# Altium footprint library miniGateway.PcbLib: 12 footprints
Each footprint in its own frame and in the unit in brackets; x right, y up, seen from the top. Pads: shape width x height; smd on the part's side, far side on the other; paste and mask are expansions set on the pad; w line width, h text height; cw(c..) or ccw(c..) is an arc to the next point about the centre after c.
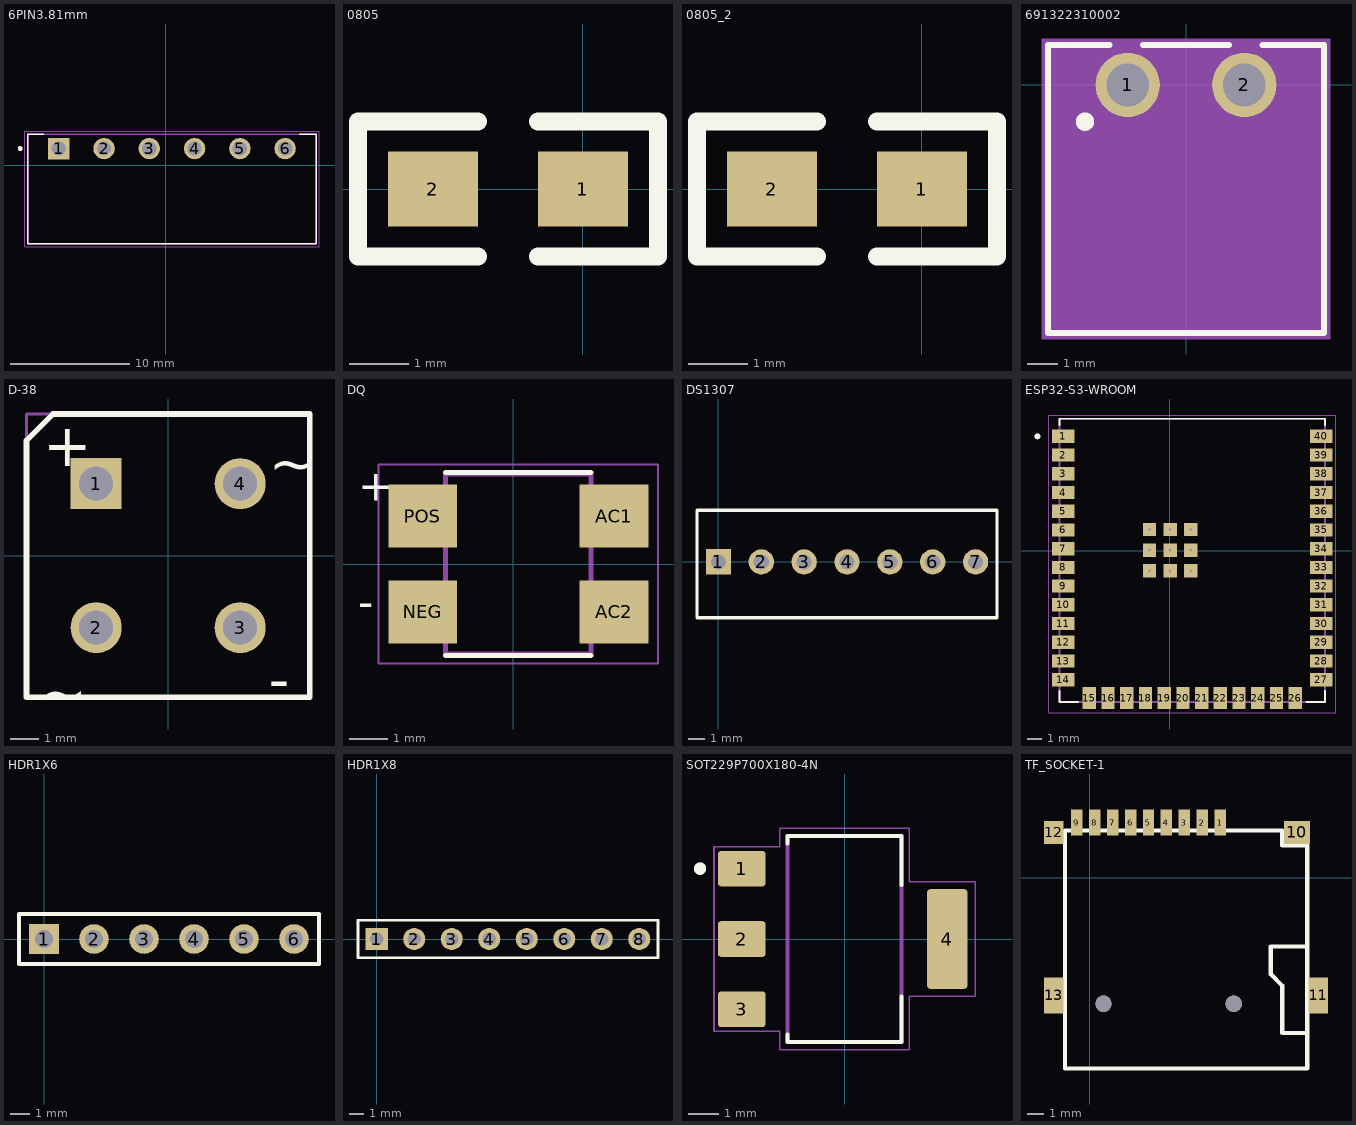
[diagram p0: the footprints below, top view; thin cyan lines are the x and y axes]

## 6PIN3.81mm [mm]
pads (6):
  rect 1.8x1.8 hole 1.2: 1(-9.017,1.397)
  round 1.8 hole 1.2: 2(-5.207,1.397) 3(-1.397,1.397) 4(2.413,1.397) 5(6.223,1.397) 6(10.033,1.397)
Top Overlay:
  circle w0.2: c-12.267,1.397 r0.1
  lines w0.127: -10.267,2.597 -11.617,2.597 -11.617,-6.603 12.633,-6.603 12.633,2.597 11.283,2.597
Mechanical 13:
  circle w0.2: c-12.267,1.397 r0.1
  lines w0.127: -11.617,-6.603 -11.617,2.597 12.633,2.597 12.633,-6.603 -11.617,-6.603
Mechanical 15:
  lines w0.05: -11.867,-6.853 12.883,-6.853 12.883,2.847 -11.867,2.847 -11.867,-6.853

## 0805 [mil]
pads (2):
  rect 60x50 smd: 1(0,0) 2(-100,0)
Top Overlay:
  lines w12: -70,-45 -150,-45 -150,45 -70,45 ; -30,-45 50,-45 50,45 -30,45

## 0805_2 [mil]
pads (2):
  rect 60x50 smd: 1(0,0) 2(-100,0)
Top Overlay:
  lines w12: -70,-45 -150,-45 -150,45 -70,45 ; -30,-45 50,-45 50,45 -30,45

## 691322310002 [mm]
pads (2):
  round 2.1 hole 1.4: 1(-1.905,0) 2(1.905,0)
Top Overlay:
  circle w0.4: c-3.3,-1.2 r0.1
  lines w0.2: -2.5,1.3 -4.505,1.3 -4.505,-8.1 4.505,-8.1 4.505,1.3 2.5,1.3 ; -1.4,1.3 1.4,1.3
Mechanical 13:
  lines w0.1: -4.405,-8 -4.405,1.2 4.405,1.2 4.405,-8 -4.405,-8
Mechanical 15:
  region: 4.705,-8.3 -4.705,-8.3 -4.705,1.5 4.705,1.5

## D-38 [mm] "Bridge Rectifier; 4 Terminals; Body 9.4 x 9.4 mm (typ); Pitch 5.08 mm"
height 9.91
pads (4):
  rect 1.8x1.8 hole 1.2: 1(-2.54,2.54)
  round 1.8 hole 1.2: 2(-2.54,-2.54) 3(2.54,-2.54) 4(2.54,2.54)
Top Overlay:
  lines w0.2: -5,-5 5,-5 5,5 -4.064,5 -5,4.064 -5,-5
  text "~" at 3.556,2.54 h1.5
  text "~" at -4.572,-5.588 h1.5
  text "-" at 3.556,-5.08 h1.5
  text "+" at -4.41,3.164 h1.5
Mechanical 13:
  lines w0.1: -5,-5 5,-5 5,5 -5,5 -5,-5
3D body: height 9.91, standoff 0, extent -5,-5 5,5

## DQ [mm]
pads (4):
  rect 1.8x1.65 smd: AC1(2.627,1.25) AC2(2.627,-1.25) NEG(-2.373,-1.25) POS(-2.373,1.25)
Top Overlay:
  lines w0.127: -1.773,-2.395 2.027,-2.395 ; -1.773,2.395 2.027,2.395
  text "+" at -4.064,1.651 h0.81
  text "-" at -4.064,-1.397 h0.81
Mechanical 13:
  lines w0.127: -1.773,-2.35 2.027,-2.35 2.027,2.35 -1.773,2.35 -1.773,-2.35
  text "+" at -4.064,1.651 h0.81
  text "-" at -4.064,-1.397 h0.81
Mechanical 15:
  lines w0.05: -3.523,-2.6 3.777,-2.6 3.777,2.6 -3.523,2.6 -3.523,-2.6
3D body "step_temp.STEP": height 3, standoff 0, extent -3.273,-2.35 3.527,2.35

## DS1307 [mm] "Connector; Header; 7 Position"
pads (7):
  rect 1.5x1.5 hole 0.9: 1(0,0)
  round 1.5 hole 0.9: 2(2.54,0) 3(5.08,0) 4(7.62,0) 5(10.16,0) 6(12.7,0) 7(15.24,0)
Top Overlay:
  lines w0.2: -1.27,-3.302 -1.27,3.048 16.51,3.048 16.51,-3.302 -1.27,-3.302

## ESP32-S3-WROOM [mm]
pads (58):
  rect 1.5x0.9 smd: 1(-7.226,7.775) 2(-7.226,6.505) 3(-7.226,5.235) 4(-7.226,3.965) 5(-7.226,2.695) 6(-7.226,1.425) 7(-7.226,0.155) 8(-7.226,-1.115) 9(-7.226,-2.385) 10(-7.226,-3.655) 11(-7.226,-4.925) 12(-7.226,-6.195) 13(-7.226,-7.465) 14(-7.226,-8.735) 27(10.274,-8.735) 28(10.274,-7.465) 29(10.274,-6.195) 30(10.274,-4.925) 31(10.274,-3.655) 32(10.274,-2.385) 33(10.274,-1.115) 34(10.274,0.155) 35(10.274,1.425) 36(10.274,2.695) 37(10.274,3.965) 38(10.274,5.235) 39(10.274,6.505) 40(10.274,7.775)
  rect 0.9x1.5 smd: 15(-5.461,-9.985) 16(-4.191,-9.985) 17(-2.921,-9.985) 18(-1.651,-9.985) 19(-0.381,-9.985) 20(0.889,-9.985) 21(2.159,-9.985) 22(3.429,-9.985) 23(4.699,-9.985) 24(5.969,-9.985) 25(7.239,-9.985) 26(8.509,-9.985)
  rect 0.9x0.9 smd: 41_1(-1.376,1.455) 41_2(0.024,1.455) 41_3(1.424,1.455) 41_4(-1.376,0.055) 41_5(0.024,0.055) 41_6(1.424,0.055) 41_7(-1.376,-1.345) 41_8(0.024,-1.345) 41_9(1.424,-1.345)
  round 0.4 hole 0.2 mask+0: 41_10(-1.376,1.455) 41_11(0.024,1.455) 41_12(-1.376,0.055) 41_13(0.024,0.055) 41_14(1.424,1.455) 41_16(1.424,0.055) 41_17(-1.376,-1.345) 41_18(0.024,-1.345) 41_19(1.424,-1.345)
Top Overlay:
  circle w0.2: c-8.976,7.775 r0.1
  lines w0.127: -7.476,-9.505 -7.476,-10.235 -6.231,-10.235 ; -7.476,8.545 -7.476,8.965 10.524,8.965 10.524,8.545 ; 9.279,-10.235 10.524,-10.235 10.524,-9.505
Mechanical 13:
  circle w0.2: c-8.976,7.775 r0.1
  lines w0.127: -7.476,-10.235 -7.476,8.965 10.524,8.965 10.524,-10.235 -7.476,-10.235
Mechanical 15:
  lines w0.05: -8.226,-10.985 11.274,-10.985 11.274,9.215 -8.226,9.215 -8.226,-10.985

## HDR1X6 [mm] "Connector; Header; 6 Position"
pads (6):
  rect 1.5x1.5 hole 0.9: 1(0,0)
  round 1.5 hole 0.9: 2(2.54,0) 3(5.08,0) 4(7.62,0) 5(10.16,0) 6(12.7,0)
Top Overlay:
  lines w0.2: -1.27,-1.27 13.97,-1.27 13.97,1.27 -1.27,1.27 -1.27,-1.27

## HDR1X8 [mm] "Connector; Header; 8 Position"
pads (8):
  rect 1.5x1.5 hole 0.9: 1(0,0)
  round 1.5 hole 0.9: 2(2.54,0) 3(5.08,0) 4(7.62,0) 5(10.16,0) 6(12.7,0) 7(15.24,0) 8(17.78,0)
Top Overlay:
  lines w0.2: -1.27,-1.27 -1.27,1.27 19.05,1.27 19.05,-1.27 -1.27,-1.27

## SOT229P700X180-4N [mm]
height 1.8
pads (4):
  rrect15% 1.539x1.147 smd: 1(-3.345,2.29)
  rrect15% 1.539x1.159 smd: 2(-3.345,0) 3(-3.345,-2.29)
  rrect15% 1.31x3.24 smd: 4(3.345,0)
Top Overlay:
  circle w0.2: c-4.703,2.29 r0.1
  lines w0.127: -1.86,-3.11 -1.86,-3.36 1.86,-3.36 1.86,-1.87 ; -1.86,3.1 -1.86,3.36 1.86,3.36 1.86,1.76
Mechanical 13:
  circle w0.2: c-4.703,2.29 r0.1
  lines w0.127: -1.86,-3.36 -1.86,3.36 1.86,3.36 1.86,-3.36 -1.86,-3.36
Mechanical 15:
  lines w0.05: -4.25,-3.01 -2.11,-3.01 -2.11,-3.61 2.11,-3.61 2.11,-1.87 4.25,-1.87 4.25,1.87 2.11,1.87 2.11,3.61 -2.11,3.61 -2.11,3.01 -4.25,3.01 -4.25,-3.01
3D body "step_temp.STEP": height 1.8, standoff 0, extent -3.499,-3.251 3.499,3.251

## TF_SOCKET-1 [mm]
height 2
pads (13):
  rect 0.7x1.6 smd: 1(8,3.4) 2(6.9,3.4) 3(5.8,3.4) 4(4.7,3.4) 5(3.6,3.4) 6(2.5,3.4) 7(1.4,3.4) 8(0.3,3.4) 9(-0.8,3.4)
  rect 1.6x1.4 smd: 10(12.7,2.8)
  rect 1.2x2.2 smd: 11(14,-7.2) 13(-2.2,-7.2)
  rect 1.2x1.4 smd: 12(-2.2,2.8)
via 0.838,-7.709 diameter 1 hole 1
via 8.838,-7.709 diameter 1 hole 1
Top Overlay:
  lines w0.254: 13.3,-9.5 11.8,-9.5 11.8,-8.2 11.8,-6.6 11.1,-5.9 11.1,-4.2 13.3,-4.2 ; -1.524,-11.684 -1.524,2.921 11.779,2.921 11.8,2.9 11.8,2 13.335,2 13.335,-11.684 9.271,-11.684 -1.524,-11.684
3D body "User Library-MEM2055-00-190-01-A_revG.STEP": height 1.85, standoff -0.6, extent -2.224,-11.557 13.776,3.693